# Altium schematic symbol library 2SK3018.SchLib: 1 symbol
Pins are listed as number, name and electrical type; pins without a type are passive.

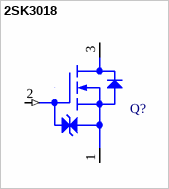
[diagram p0: symbol 2SK3018]

## 2SK3018
designator Q?
TRANS MOSFET N-CH 30V .1A SOT-323
pins: 1 SOURCE, 2 GATE (in), 3 DRAIN